# EAGLE library part LT-LT3094 (library EagleLibrary)
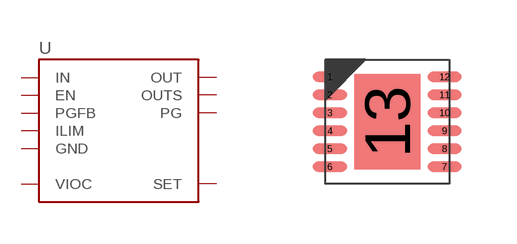
[diagram p23: symbol with the pads of LT-LT3094XDD; footprint LT-LT3094XDD]

Designator prefix U

## LT-LT3094 (MFG: Analog Devices)  [LT-LT3094XDD]
1  IN
2  IN
3  EN
4  PG
5  PGFB
6  ILIM
7  VIOC
8  SET
9  GND
10  OUTS
11  OUT
12  OUT
13  IN

## Footprint LT-LT3094XDD (pad centres in mm)
12-SON (DFN), 0.45 mm pitch, 3.00 X 3.00 X 0.80 mm body, 2.38 X 1.65 mm thermal pad 12-pin SON (DFN) package with 0.45 mm pitch with body size 3.00 X 3.00 X 0.80 mm and thermal pad size 2.38 X 1.65 mm
smd 0.86 x 0.25: 1 -1.435,1.125; 2 -1.435,0.675; 3 -1.435,0.225; 4 -1.435,-0.225; 5 -1.435,-0.675; 6 -1.435,-1.125; 7 1.435,-1.125; 8 1.435,-0.675; 9 1.435,-0.225; 10 1.435,0.225; 11 1.435,0.675; 12 1.435,1.125
smd 1.65 x 2.38: 13 0,0